# EAGLE library part MT9V032 (library dan-aptina)
Aptina/Micron MT9V032 image sensor Warning: SER_DATAOUT_P/_N and SHFT_CLKOUT_P/_N may be swapped (datasheet is inconsistent)!
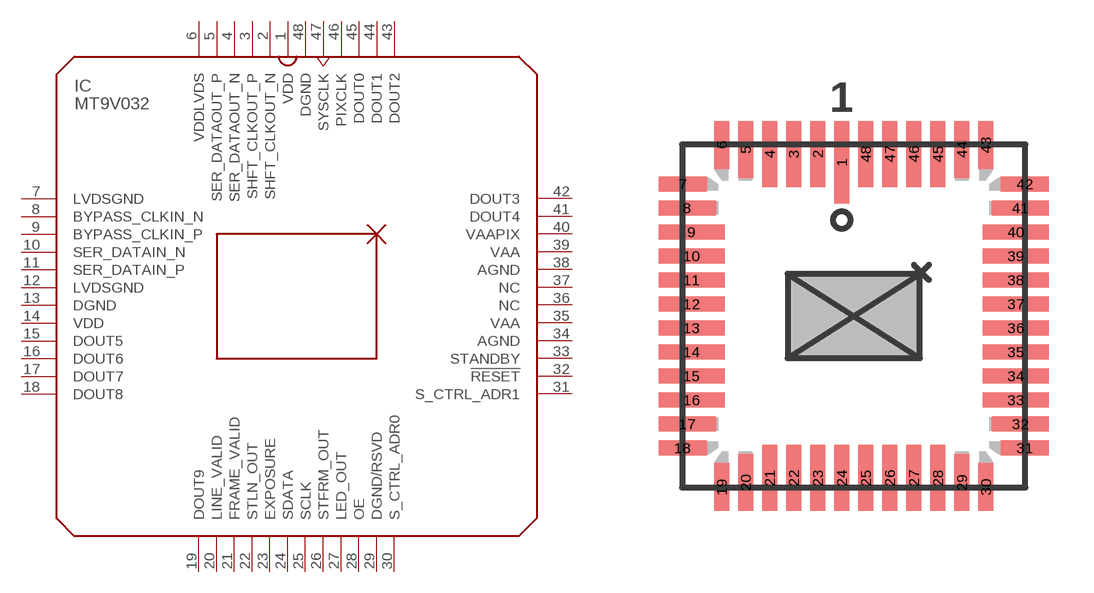
[diagram p0: symbol with the pads of CLCC48-MT9V032; footprint CLCC48-MT9V032]

Designator prefix IC

## MT9V032  [CLCC48-MT9V032]
1  VDD
2  SHFT_CLKOUT_N  out
3  SHFT_CLKOUT_P  out
4  SER_DATAOUT_N  out
5  SER_DATAOUT_P  out
6  VDDLVDS  pas
7  LVDSGND  pas
8  BYPASS_CLKIN_N  in
9  BYPASS_CLKIN_P  in
10  SER_DATAIN_N  in
11  SER_DATAIN_P  in
12  LVDSGND  pas
13  DGND  pas
14  VDD  pas
15  DOUT5  out
16  DOUT6  out
17  DOUT7  out
18  DOUT8  out
19  DOUT9  out
20  LINE_VALID  out
21  FRAME_VALID  out
22  STLN_OUT
23  EXPOSURE  in
24  SDATA
25  SCLK  in
26  STFRM_OUT
27  LED_OUT
28  OE  in
29  DGND/RSVD  pas
30  S_CTRL_ADR0  in
31  S_CTRL_ADR1  in
32  !RESET  in
33  STANDBY  in
34  AGND  pas
35  VAA  pas
36  NC
37  NC
38  AGND  pas
39  VAA  pas
40  VAAPIX  pas
41  DOUT4  out
42  DOUT3  out
43  DOUT2  out
44  DOUT1  out
45  DOUT0  out
46  PIXCLK  out
47  SYSCLK  in
48  DGND

## Footprint CLCC48-MT9V032 (pad centres in mm)
48-pin CLCC For Micron/Aptina MT9V032 image sensor
smd 0.5 x 2.75: 1 -0.4,5.125
smd 0.5 x 2.2: 2 -1.2,5.4; 3 -2,5.4; 4 -2.8,5.4; 21 -2.8,-5.4; 22 -2,-5.4; 23 -1.2,-5.4; 24 -0.4,-5.4; 25 0.4,-5.4; 26 1.2,-5.4; 27 2,-5.4; 28 2.8,-5.4; 45 2.8,5.4; 46 2,5.4; 47 1.2,5.4; 48 0.4,5.4
smd 0.5 x 1.9: 5 -3.6,5.55; 20 -3.6,-5.55; 29 3.6,-5.55; 44 3.6,5.55
smd 0.5 x 1.6: 6 -4.4,5.7; 19 -4.4,-5.7; 30 4.4,-5.7; 43 4.4,5.7
smd 1.6 x 0.5: 7 -5.7,4.4; 18 -5.7,-4.4; 31 5.7,-4.4; 42 5.7,4.4
smd 1.9 x 0.5: 8 -5.55,3.6; 17 -5.55,-3.6; 32 5.55,-3.6; 41 5.55,3.6
smd 2.2 x 0.5: 9 -5.4,2.8; 10 -5.4,2; 11 -5.4,1.2; 12 -5.4,0.4; 13 -5.4,-0.4; 14 -5.4,-1.2; 15 -5.4,-2; 16 -5.4,-2.8; 33 5.4,-2.8; 34 5.4,-2; 35 5.4,-1.2; 36 5.4,-0.4; 37 5.4,0.4; 38 5.4,1.2; 39 5.4,2; 40 5.4,2.8